# Altium footprint library notus.PcbLib: 31 footprints (part 1 of 2)
Each footprint in its own frame and in the unit in brackets; x right, y up, seen from the top. Pads: shape width x height; smd on the part's side, far side on the other; paste and mask are expansions set on the pad; w line width, h text height; cw(c..) or ccw(c..) is an arc to the next point about the centre after c.
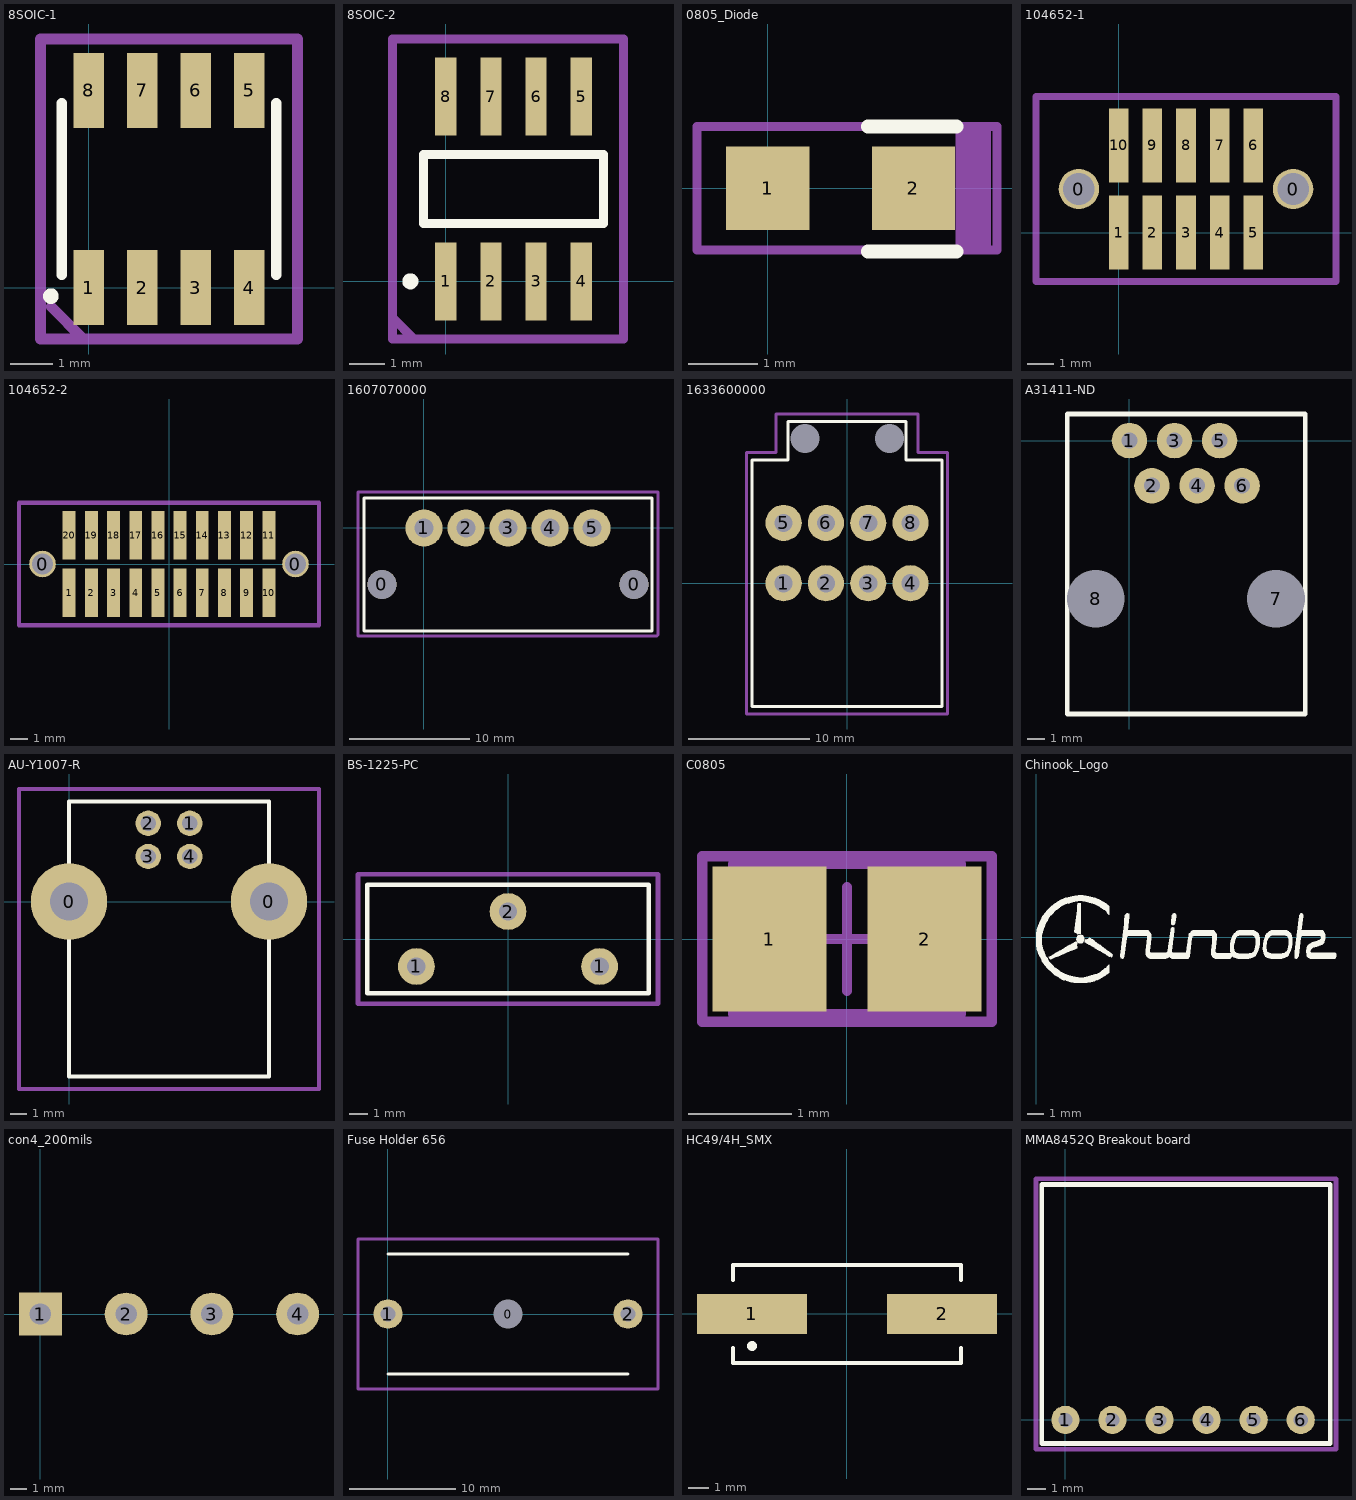
[diagram p0: the footprints below, top view; thin cyan lines are the x and y axes]

## 8SOIC-1 [mm]
pads (8):
  rect 0.72x1.78 smd: 1(0,0) 2(1.27,0) 3(2.54,0) 4(3.81,0) 5(3.81,4.68) 6(2.54,4.68) 7(1.27,4.68) 8(0,4.68)
Top Overlay:
  circle w0.254: c-0.895,-0.2 r0.057
  lines w0.254: -0.635,0.308 -0.635,4.372 ; 4.445,0.308 4.445,4.372
Mechanical 15:
  lines w0.254: -0.889,-0.454 -0.127,-1.216 ; -1.143,-1.216 4.953,-1.216 4.953,5.896 -1.143,5.896 -1.143,-1.216
  text ".Designator" at 0.381,2.086 h0.76
3D body: height 1.76, standoff 0, extent -0.595,0.308 4.405,4.372

## 8SOIC-2 [mm]
pads (8):
  rect 0.6x2.2 smd: 1(0,0) 2(1.27,0) 3(2.54,0) 4(3.81,0) 5(3.81,5.2) 6(2.54,5.2) 7(1.27,5.2) 8(0,5.2)
Top Overlay:
  circle w0.254: c-1,0 r0.1
  lines w0.254: -0.635,1.625 -0.635,3.575 4.445,3.575 4.445,1.625 -0.635,1.625
Mechanical 15:
  lines w0.254: -1.5,-0.975 -1.5,-1.025 -0.9,-1.625 ; -1.5,-1.625 5,-1.625 5,6.825 -1.5,6.825 -1.5,-1.625
  text ".designator" at -0.7,1.95 h1.52
3D body: height 1.45, standoff 0, extent -0.635,0 4.445,5.2

## 0805_Diode [mm]
pads (2):
  rect 1.2x1.2 smd: 1(0,0) 2(2.1,0)
Top Overlay:
  lines w0.203: 1.448,-0.914 2.718,-0.914 ; 1.448,0.889 2.718,0.889
Mechanical 15:
  lines w0.127: 2.769,-0.889 2.769,0.889 ; 2.896,-0.864 2.896,0.889 ; 3.023,-0.889 3.023,0.889 ; 3.15,-0.889 3.15,0.889 ; -1.016,-0.889 3.302,-0.889 3.302,0.889 -1.016,0.889 -1.016,-0.889
3D body: height 0.51, standoff 0, extent -0.096,-0.625 2.229,0.625

## 104652-1 [mm] "10 pins femail header with lock pin"
pads (12):
  round 1.524 hole 1.2: 0(-1.52,1.65) 0(6.6,1.65)
  rect 0.74x2.79 smd: 1(0,0) 2(1.27,0) 3(2.54,0) 4(3.81,0) 5(5.08,0) 6(5.08,3.3) 7(3.81,3.3) 8(2.54,3.3) 9(1.27,3.3) 10(0,3.3)
Mechanical 15:
  lines w0.254: -3.144,-1.858 8.224,-1.858 8.224,5.158 -3.144,5.158 -3.144,-1.858
3D body: height 4.75, standoff 0, extent -2.87,0.125 7.95,3.175

## 104652-2 [mm] "20 pins female header with lock pin"
pads (22):
  round 1.524 hole 1.2: 0(-7.24,0) 0(7.24,0)
  rect 0.74x2.79 smd: 1(-5.715,-1.65) 2(-4.445,-1.65) 3(-3.175,-1.65) 4(-1.905,-1.65) 5(-0.635,-1.65) 6(0.635,-1.65) 7(1.905,-1.65) 8(3.175,-1.65) 9(4.445,-1.65) 10(5.715,-1.65) 11(5.715,1.65) 12(4.445,1.65) 13(3.175,1.65) 14(1.905,1.65) 15(0.635,1.65) 16(-0.635,1.65) 17(-1.905,1.65) 18(-3.175,1.65) 19(-4.445,1.65) 20(-5.715,1.65)
Mechanical 15:
  lines w0.254: -8.585,-3.508 -8.585,3.508 8.585,3.508 8.585,-3.508 -8.585,-3.508
3D body: height 4.75, standoff 0, extent -8.585,-1.525 8.585,1.525

## 1607070000 [mil] "Connector, header, pitch 3.5mm, right angle"
pads (7):
  round 94.49 hole 94.49 unplated: 0(-137.8,-185.04) 0(688.98,-185.04)
  round 122 hole 61: 1(0,0) 2(137.8,0) 3(275.59,0) 4(413.39,0) 5(551.18,0)
Top Overlay:
  lines w10: -196.85,-338.58 -196.85,98.43 137.8,98.43 748.03,98.43 748.03,-338.58 -196.85,-338.58
Mechanical 15:
  lines w10: -216.54,-354.33 -216.54,118.11 767.72,118.11 767.72,-350.39 763.78,-354.33 -216.54,-354.33
  text ".Designator" at 0,-250 h60

## 1633600000 [mm] "Weidmuller 8 poles connector"
pads (10):
  round 0 hole 2.4 unplated: 0(-3.484,12) 0(3.516,12)
  round 3 hole 1.5: 1(-5.25,0) 2(-1.745,0) 3(1.76,0) 4(5.266,0) 5(-5.25,5) 6(-1.745,5) 7(1.76,5) 8(5.266,5)
Top Overlay:
  lines w0.254: -7.874,10.2 -7.874,-10.2 7.874,-10.2 7.874,10.2 ; -7.84,10.2 -4.9,10.2 -4.9,13.387 4.9,13.387 4.9,10.2 7.84,10.2
Mechanical 15:
  lines w0.254: -8.33,-10.837 -8.33,10.837 -5.88,10.837 -5.88,14.025 5.88,14.025 5.88,10.837 8.33,10.837 8.33,-10.837 -8.33,-10.837

## A31411-ND [mm] "Pic Prog connector"
pads (8):
  round 2 hole 0.9: 1(0,0) 2(1.27,-2.54) 3(2.54,0) 4(3.81,-2.54) 5(5.08,0) 6(6.35,-2.54)
  round 1.524 hole 3.25: 7(8.26,-8.9) 8(-1.9,-8.9)
Top Overlay:
  lines w0.254: -3.5,-15.4 -3.5,1.5 9.9,1.5 9.9,-9 9.9,-15.4 -3.5,-15.4
3D body: height 16.5, standoff 0, extent -3.499,-15.399 9.899,1.499

## AU-Y1007-R [mm]
pads (6):
  round 4.6 hole 2.3: 0(0,0) 0(12.04,0)
  round 1.524 hole 0.92: 1(7.27,4.71) 2(4.77,4.71) 3(4.77,2.71) 4(7.27,2.71)
Top Overlay:
  lines w0.254: 0,-10.535 12.04,-10.535 12.04,6.02 0,6.02 0,-10.535
Mechanical 15:
  lines w0.254: -3.01,-11.288 -3.01,-1.505 -3.01,1.505 -3.01,6.773 15.05,6.773 15.05,-11.288 -3.01,-11.288
  text ".Designator" at 1.505,-5.268 h1.52
3D body: height 10.9, standoff 0, extent 0,-10.535 12.04,6.02

## BS-1225-PC [mm] "3V battery socket"
pads (3):
  round 2.04 hole 1.02: 1(-5.08,-1.525) 1(5.08,-1.525) 2(0,1.525)
Top Overlay:
  lines w0.254: -7.8,-3 7.8,-3 7.8,3 -7.8,3 -7.8,-3
Mechanical 15:
  lines w0.254: -8.32,-3.6 8.32,-3.6 8.32,3.6 -8.32,3.6 -8.32,-3.6
3D body: height 8.33, standoff 0, extent -7.54,-2.7 7.54,2.7

## C0805 [mm] "Chip Capacitor, Body 2.0x1.3mm, IPC High Density"
height 1.4
pads (2):
  rect 1.1x1.4 smd: 1(-0.75,0) 2(0.75,0)
Mechanical 13:
  lines w0.1: -1.1,-0.725 -1.1,0.725 1.1,0.725 1.1,-0.725 -1.1,-0.725
Mechanical 15:
  lines w0.1: -0.5,0 0.5,0 ; 0,-0.5 0,0.5 ; -1.4,-0.8 -1.4,0.8 1.4,0.8 1.4,-0.8 -1.4,-0.8
3D body: height 1.4, standoff 0, extent -1.1,-0.725 1.1,0.725

## Chinook_Logo [mm]
Top Overlay:
  drawing of 9 lines, arcs and shapes, not listed

## con4_200mils [mm]
pads (4):
  rect 2.54x2.54 hole 1.27: 1(0,0)
  round 2.54 hole 1.27: 2(5.08,0) 3(10.16,0) 4(15.24,0)

## Fuse Holder 656 [mm]
pads (3):
  round 1.524 hole 2.7 unplated: 0(11.25,0)
  round 2.76 hole 1.38: 1(0,0) 2(22.5,0)
Top Overlay:
  lines w0.254: 0,-5.625 22.5,-5.625 ; 0,5.625 22.5,5.625
Mechanical 15:
  lines w0.254: -2.812,-7.031 25.312,-7.031 25.312,7.031 -2.812,7.031 -2.812,-7.031
  text ".Designator" at 4,2 h1.52

## HC49/4H_SMX [mm] "Quartz Crystal, SM; Body 13.4 (inc. leads) x 4.9 mm (LxW max)"
height 4.3
pads (2):
  rect 5.5x2 smd: 1(-4.75,0) 2(4.75,0)
Top Overlay:
  circle w0.25: c-4.75,-1.6 r0.125
  lines w0.2: -5.7,-1.7 -5.7,-2.45 5.7,-2.45 5.7,-1.7 ; -5.7,1.7 -5.7,2.45 5.7,2.45 5.7,1.7

## MMA8452Q Breakout board [mil]
pads (6):
  round 60 hole 30: 1(0,0) 2(100,0) 3(200,0) 4(300,0) 5(400,0) 6(500,0)
Top Overlay:
  lines w10: -50,-50 562.5,-50 562.5,500 -50,500 -50,-50
Mechanical 15:
  lines w10: -62.5,-62.5 575,-62.5 575,512.5 -62.5,512.5 -62.5,-62.5